# EAGLE library part CYBLE-014008-00 (library PatternAgents-Cypress)
Cypress PSoC® 4 - Programmable System on Chip, Cortex-M0 Based , Bluetooth Radio Module http://www.cypress.com/?mpn=CYBLE-014008-00 LBR Source: http://www.patternagents.com THIS SOFTWARE IS PROVIDED BY THE CONTRIBUTORS "AS IS" AND WITHOUT ANY EXPRESS OR IMPLIED WARRANTIES, INCLUDING, BUT NOT LIMITED TO, THE IMPLIED WARRANTIES OF MERCHANTABILITY AND FITNESS FOR A PARTICULAR PURPOSE ARE DISCLAIMED. IN NO EVENT SHALL THE COPYRIGHT OWNER OR CONTRIBUTORS BE LIABLE FOR ANY DIRECT, INDIRECT, INCIDENTAL, SPECIAL, EXEMPLARY, OR CONSEQUENTIAL DAMAGES (INCLUDING, BUT NOT LIMITED TO, PROCUREMENT OF SUBSTITUTE GOODS OR SERVICES; LOSS OF USE, DATA, OR PROFITS; OR BUSINESS INTERRUPTION) HOWEVER CAUSED AND ON ANY THEORY OF LIABILITY, WHETHER IN CONTRACT, STRICT LIABILITY, OR TORT (INCLUDING NEGLIGENCE OR OTHERWISE) ARISING IN ANY WAY OUT OF THE USE OF THIS SOFTWARE, EVEN IF ADVISED OF THE POSSIBILITY OF SUCH DAMAGE.
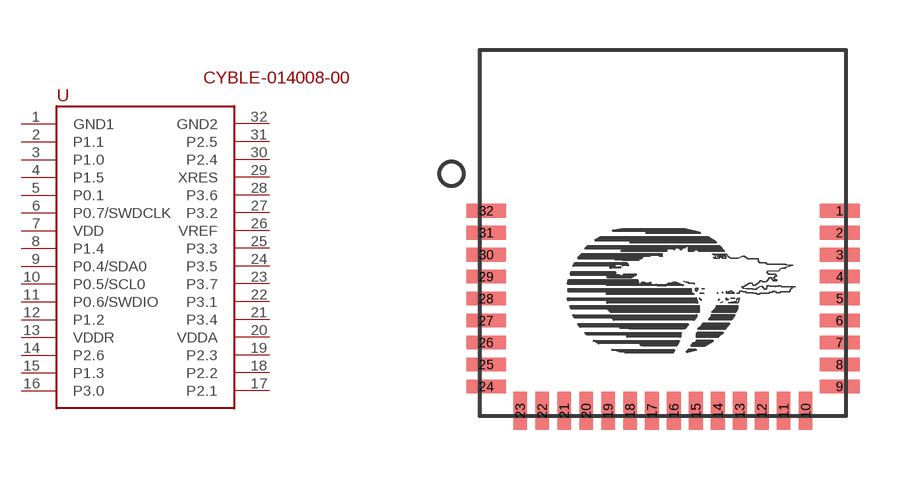
[diagram p34: symbol with the pads of PSOC-BLE-11MM-32; footprint PSOC-BLE-11MM-32]

Designator prefix U

## CYBLE-014008-00  [PSOC-BLE-11MM-32]
1  GND1  pwr
2  P1.1
3  P1.0
4  P1.5
5  P0.1
6  P0.7/SWDCLK
7  VDD  pwr
8  P1.4
9  P0.4/SDA0
10  P0.5/SCL0
11  P0.6/SWDIO
12  P1.2
13  VDDR  pwr
14  P2.6
15  P1.3
16  P3.0
17  P2.1
18  P2.2
19  P2.3
20  VDDA  pwr
21  P3.4
22  P3.1
23  P3.7
24  P3.5
25  P3.3
26  VREF  in
27  P3.2
28  P3.6
29  XRES  in
30  P2.4
31  P2.5
32  GND2  pwr

## Footprint PSOC-BLE-11MM-32 (pad centres in mm)
Cypress PSoC® 4 - Programmable System on Chip, Cortex-M0 Based http://www.cypress.com/?mpn=CYBLE014008-00 LBR Source: http://www.patternagents.com THIS SOFTWARE IS PROVIDED BY THE CONTRIBUTORS "AS IS" AND WITHOUT ANY EXPRESS OR IMPLIED WARRANTIES, INCLUDING, BUT NOT LIMITED TO, THE IMPLIED WARRANTIES OF MERCHANTABILITY AND FITNESS FOR A PARTICULAR PURPOSE ARE DISCLAIMED. IN NO EVENT SHALL THE COPYRIGHT OWNER OR CONTRIBUTORS BE LIABLE FOR ANY DIRECT, INDIRECT, INCIDENTAL, SPECIAL, EXEMPLARY, OR CONSEQUENTIAL DAMAGES (INCLUDING, BUT NOT LIMITED TO, PROCUREMENT OF SUBSTITUTE GOODS OR SERVICES; LOSS OF USE, DATA, OR PROFITS; OR BUSINESS INTERRUPTION) HOWEVER CAUSED AND ON ANY THEORY OF LIABILITY, WHETHER IN CONTRACT, STRICT LIABILITY, OR TORT (INCLUDING NEGLIGENCE OR OTHERWISE) ARISING IN ANY WAY OUT OF THE USE OF THIS SOFTWARE, EVEN IF ADVISED OF THE POSSIBILITY OF SUCH DAMAGE.
smd 1.2 x 0.41: 1 5.31,0.67; 2 5.31,0.01; 3 5.31,-0.65; 4 5.31,-1.31; 5 5.31,-1.97; 6 5.31,-2.63; 7 5.31,-3.29; 8 5.31,-3.95; 9 5.31,-4.61; 24 -5.31,-4.61; 25 -5.31,-3.95; 26 -5.31,-3.29; 27 -5.31,-2.63; 28 -5.31,-1.97; 29 -5.31,-1.31; 30 -5.31,-0.65; 31 -5.31,0.01; 32 -5.31,0.67
smd 0.41 x 1.15: 10 4.29,-5.335; 11 3.63,-5.335; 12 2.97,-5.335; 13 2.31,-5.335; 14 1.65,-5.335; 15 0.99,-5.335; 16 0.33,-5.335; 17 -0.33,-5.335; 18 -0.99,-5.335; 19 -1.65,-5.335; 20 -2.31,-5.335; 21 -2.97,-5.335; 22 -3.63,-5.335; 23 -4.29,-5.335